# Altium integrated library CR0805-FX-1004ELF.IntLib: 1 symbol
Pins are listed as number, name and electrical type; pins without a type are passive.

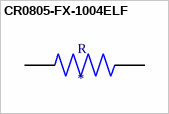
[diagram p0: symbol CR0805-FX-1004ELF]

## CR0805-FX-1004ELF
designator R
Res Thick Film 0805 1M Ohm 1% 0.125W(1/8W) ?100ppm/?C Molded SMD Paper Tape on Plastic Reel; MF: Bourns; MP: CR0805-FX-1004ELF; Availability: Unavailable; Price: None; Mouser-Purchase-URL: https://snapeda.com/shop?store=Mouser&id=701498; Package: 2012 Bourns; DigiKey-Purchase-URL: https://snapeda.com/shop?store=DigiKey&id=701498; Value: *; Arrow_Electronics-Purchase-URL: https://snapeda.com/shop?store=Arrow+Electronics&id=701498; SnapEDA_Link: https://www.snapeda.com/parts/CR0805-FX-1004ELF/Bourns/view-part/701498/?ref=snap
footprint RESC2012X60N
pins: 1, 2